# Altium footprint library A7672S.PcbLib: 1 footprints
Each footprint in its own frame and in the unit in brackets; x right, y up, seen from the top. Pads: shape width x height; smd on the part's side, far side on the other; paste and mask are expansions set on the pad; w line width, h text height; cw(c..) or ccw(c..) is an arc to the next point about the centre after c.
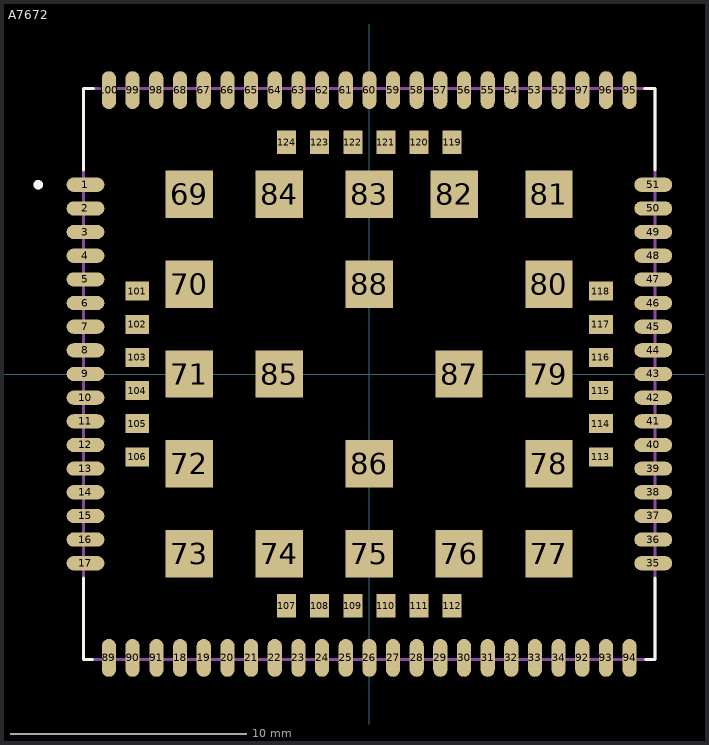
[diagram p0: the footprint, top view; thin cyan lines are the x and y axes]

## A7672 [mm]
pads (124):
  oval 1.6x0.6 smd: 1(-12,8) 2(-12,7) 3(-12,6) 4(-12,5) 5(-12,4) 6(-12,3) 7(-12,2) 8(-12,1) 9(-12,0) 10(-12,-1) 11(-12,-2) 12(-12,-3) 13(-12,-4) 14(-12,-5) 15(-12,-6) 16(-12,-7) 17(-12,-8) 35(12,-8) 36(12,-7) 37(12,-6) 38(12,-5) 39(12,-4) 40(12,-3) 41(12,-2) 42(12,-1) 43(12,0) 44(12,1) 45(12,2) 46(12,3) 47(12,4) 48(12,5) 49(12,6) 50(12,7) 51(12,8)
  oval 0.6x1.6 smd: 18(-8,-12) 19(-7,-12) 20(-6,-12) 21(-5,-12) 22(-4,-12) 23(-3,-12) 24(-2,-12) 25(-1,-12) 26(0,-12) 27(1,-12) 28(2,-12) 29(3,-12) 30(4,-12) 31(5,-12) 32(6,-12) 33(7,-12) 34(8,-12) 52(8,12) 53(7,12) 54(6,12) 55(5,12) 56(4,12) 57(3,12) 58(2,12) 59(1,12) 60(0,12) 61(-1,12) 62(-2,12) 63(-3,12) 64(-4,12) 65(-5,12) 66(-6,12) 67(-7,12) 68(-8,12) 89(-11.01,-12) 90(-10.01,-12) 91(-9,-12) 92(9,-12) 93(10,-12) 94(11,-12) 95(11,12) 96(10,12) 97(9,12) 98(-9.01,12) 99(-10.01,12) 100(-11.01,12)
  rect 2x2 smd: 69(-7.611,7.6) 70(-7.611,3.8) 71(-7.611,0) 72(-7.611,-3.8) 73(-7.611,-7.6) 74(-3.811,-7.6) 75(-0.011,-7.6) 76(3.789,-7.6) 77(7.589,-7.6) 78(7.589,-3.8) 79(7.589,0) 80(7.589,3.8) 81(7.589,7.6) 82(3.589,7.6) 83(-0.011,7.6) 84(-3.811,7.6) 85(-3.811,0) 86(-0.011,-3.8) 87(3.789,0) 88(-0.011,3.8)
  rect 1x0.8 smd: 101(-9.81,3.5) 102(-9.81,2.1) 103(-9.81,0.7) 104(-9.81,-0.7) 105(-9.81,-2.1) 106(-9.81,-3.5) 113(9.79,-3.5) 114(9.79,-2.1) 115(9.79,-0.7) 116(9.79,0.7) 117(9.79,2.1) 118(9.79,3.5)
  rect 0.8x1 smd: 107(-3.5,-9.8) 108(-2.1,-9.8) 109(-0.7,-9.8) 110(0.7,-9.8) 111(2.1,-9.8) 112(3.5,-9.8) 119(3.5,9.8) 120(2.1,9.8) 121(0.7,9.8) 122(-0.7,9.8) 123(-2.1,9.8) 124(-3.5,9.8)
Top Overlay:
  circle w0.2: c-14,8 r0.1
  lines w0.127: -12.075,-8.62 -12.075,-12.075 -11.695,-12.075 ; -12.075,8.62 -12.075,12.075 -11.67,12.075 ; 11.622,12.075 12.075,12.075 12.075,8.62 ; 11.673,-12.075 12.075,-12.075 12.075,-8.62
Mechanical 13:
  circle w0.2: c-14,8 r0.1
  lines w0.127: -12.075,-12.075 12.075,-12.075 12.075,12.075 -12.075,12.075 -12.075,-12.075
3D body: height 0.6, standoff 0, extent -12.04,-11.938 12.014,12.09
3D body: height 1.2, standoff 0.6, extent -11.633,-11.633 11.557,11.557